# Altium schematic symbol library schlibLS.SchLib: 30 symbols
Pins are listed as number, name and electrical type; pins without a type are passive.

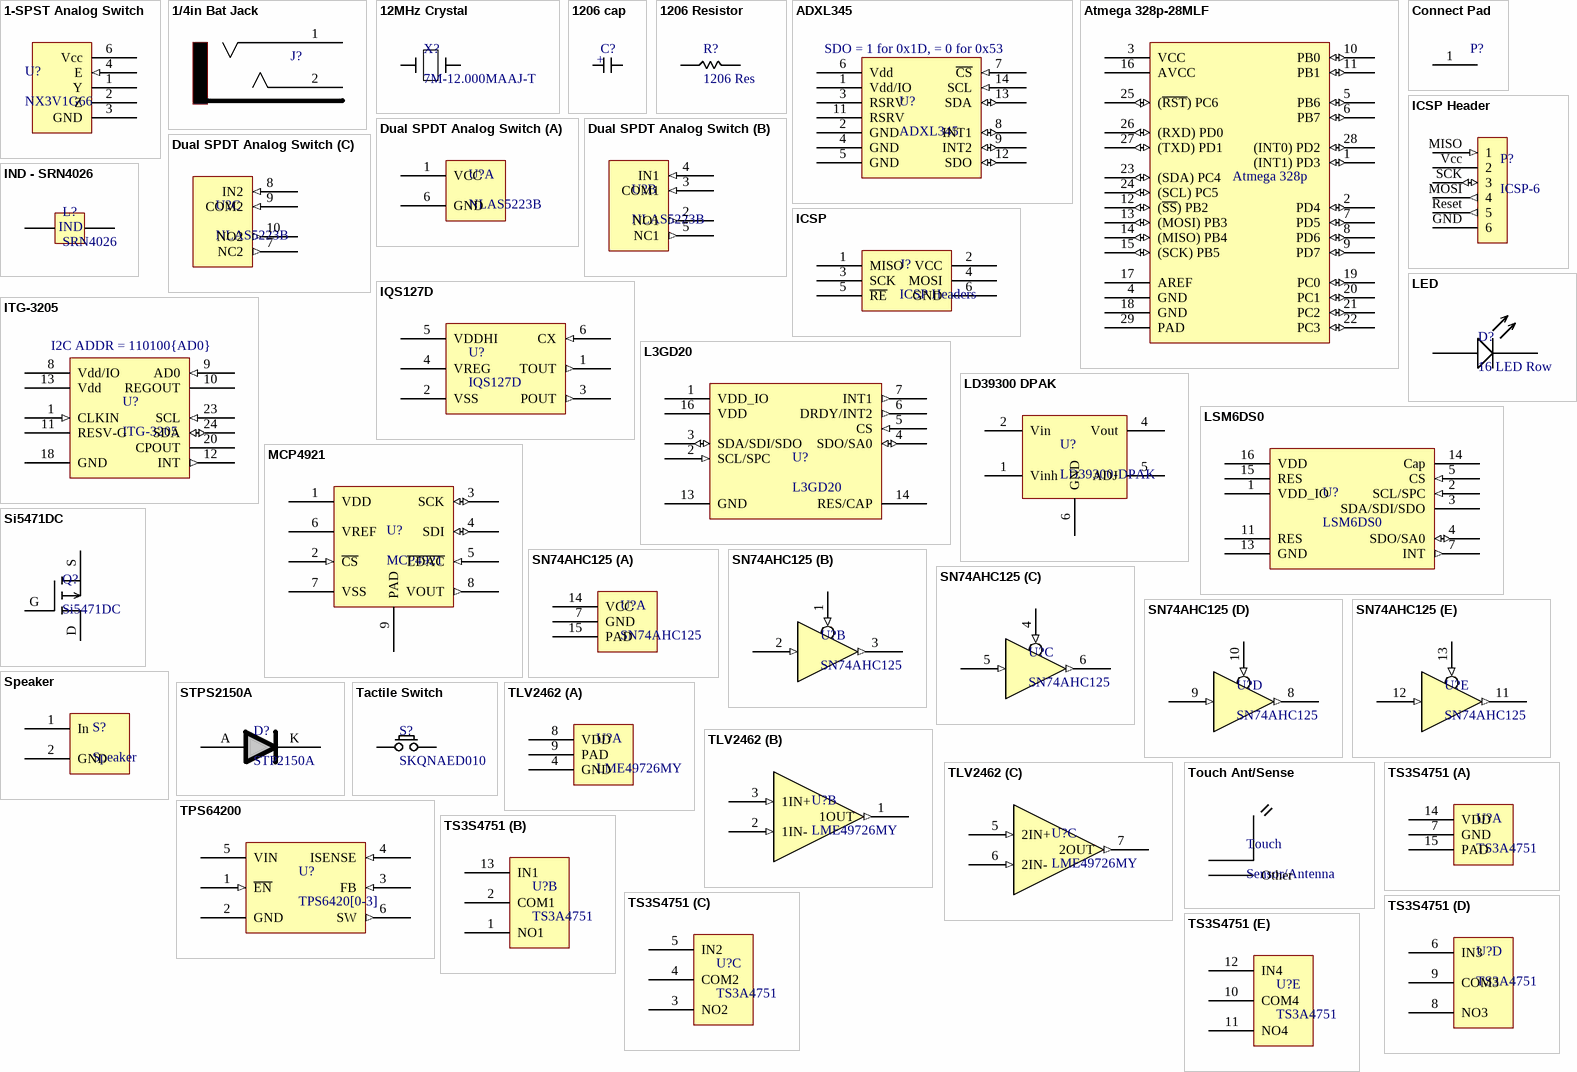
[diagram p0: symbols 1-SPST Analog Switch to TS3S4751]

## 1-SPST Analog Switch
designator U?, comment NX3V1G66
SPST Analog Switch IC
footprint SOT65P212X110-5L (1SPST Switch SOT23, 5-Leads, Body 2.05x2.13mm, Pitch 0.65mm, IPC High Density)
pins: 1 Y, 2 Z, 3 GND (power), 4 E (in) "Control, Y to Z", 6 Vcc (power)

## 1/4in Bat Jack
designator J?, comment 1/4"  (value not drawn)
footprint Battery Jack
pins: 1, 2, 3 (power)

## 12MHz Crystal
designator X?, comment 7M-12.000MAAJ-T
TXC Corp - 7M-12.000MAAJ-T
footprint SON160P320X60-4L (NX3225 Crystal)
footprint TXC 12Mhz Crystal (2.5x2mm SON)
pins: 1, 2 4 hidden to GND, 3 27, 4 5 hidden to GND

## 1206 cap
designator C?
footprint CAPC1608X09M (Chip Capacitor, 2-Leads, Body 1.60x0.80mm, IPC Low Density)
footprint CAPC3216X10M (Chip Capacitor, 2-Leads, Body 3.20x1.60mm, IPC Low Density)
footprint CAP4040X58M (AL-ELECT Capacitor, 2-Leads, Body 4.00x4.00mm, IPC Low Density)
footprint CAPMP3216X10M (POSCAP - Molded Capacitor, 2-Leads, Body 3.20x1.60mm, IPC Low Density)
footprint 0805 Capacitor (Chip Capacitor, 2-Leads, Body 2.00x1.25mm, IPC Medium Density)
footprint 0402 - CAPC1005X06N (Chip Capacitor, 2-Leads, Body 1.00x0.50mm, IPC Medium Density)
pins: 1, 2
text: +

## 1206 Resistor
designator R?, comment 1206 Res
footprint RESC3115X06M (Chip Resistor, 2-Leads, Body 3.13x1.55mm, IPC Low Density)
footprint Axial 0.6 - Isense
footprint 0805-RESISTOR (Chip Capacitor, 2-Leads, Body 2.00x1.25mm, IPC High Density)
footprint RESC1005X04N (0402 - Chip Resistor, 2-Leads, Body 1.00x0.50mm, IPC Medium Density)
pins: 1, 2

## ADXL345
designator U?
ADXL345 3 Axis Accelerometer
footprint PQFN80P300X500X100-14N (ADXL345 - PQFN, 14-Leads, Body 3.00x5.00mm, Pitch 1.01mm/0.80mm, IPC Medium Density)
pins: 1 Vdd/IO (power) "Digital Supply Voltage", 2 GND (power), 3 RSRV "Connect to Vdd or Open", 4 GND (power), 5 GND (power), 6 Vdd (power) "Supply Voltage", 7 ~{CS} (in) "Chip Select (Tie High for I2C)", 8 INT1 (io), 9 INT2 (io), 10 NC hidden "Not Connected", 11 RSRV "Connect to GND or Open", 12 SDO (io) "SPI-4 Out / Alt I2C Address Sel", 13 SDA (io) "SPI-4 In, I2C Data, Spi-3 IO", 14 SCL (in) "I2C, SPI3,4 Clock"
text: SDO = 1 for 0x1D, = 0 for 0x53

## Atmega 328p-28MLF
designator Atmega 328p, comment 28 MLF Package  (value not drawn)
28 pin MLF Package ATmega 328p
footprint QFN45P400X400X100_HS-29N (Atmega - QFN, 28-Leads, Body 4.00x4.00mm, Pitch 0.45mm, Thermal Pad 2.40x2.40mm, IPC Medium Density)
pins: 1 (INT1) PD3 (io) "Interrupt 1", 2 PD4 (io), 3 VCC (power), 4 GND (power), 5 PB6 (io) "XTAL1 / TOSC1", 6 PB7 (io) "XTAL2 / TOSC2", 7 PD5 (io), 8 PD6 (io), 9 PD7 (io), 10 PB0 (io), 11 PB1 (io), 12 (~{SS}) PB2 (io) "S\S\ SPI Select", 13 (MOSI) PB3 (io) "MOSI SPI", 14 (MISO) PB4 (io) "MISO SPI", 15 (SCK) PB5 (io) "SCK", 16 AVCC (power) "Connect to VCC, LPF if ADC used", 17 AREF "Not used here; 0.1uF cap to gnd", 18 GND (power), 19 PC0 (io), 20 PC1 (io), 21 PC2 (io), 22 PC3 (io), 23 (SDA) PC4 (io) "I2C SDA", 24 (SCL) PC5 (io) "I2C SCL", 25 (~{RST}) PC6 (io) "!Reset", 26 (RXD) PD0 (io) "RX UART", 27 (TXD) PD1 (io) "TX UART", 28 (INT0) PD2 (io) "Interrupt 0", 29 PAD

## Connect Pad
designator P?  (value not drawn)
footprint Connection Via
pins: 1 23

## Dual SPDT Analog Switch
designator U?, comment NLAS5223B
Dual SPDT Analog Switch
footprint PQFN40P140X180X80-10L (2-SPDT-Switch - PQFN, 10-Leads, Body 1.40x1.80mm, Pitch 0.40mm, IPC High Density)
part A pins: 1 VCC (power), 6 GND (power)
part B pins: 2 NO1 (out) "Follows IN1", 3 COM1 (in) "Common to Both Outs", 4 IN1 (in) "Control Pin", 5 NC1 (out) "Inverse N1"
part C pins: 7 NC2 (out) "Inverse N1", 8 IN2 (in) "Control Pin", 9 COM2 (in) "Common to Both Outs", 10 NO2 (out) "Follows IN1"

## ICSP
designator J?, comment ICSP Headers
footprint ICSP (50 mil pitch icsp headers...)
pins: 1 MISO, 2 VCC (power), 3 SCK, 4 MOSI, 5 ~{RE}, 6 GND (power)

## ICSP Header
designator P?, comment ICSP-6
6 Pin ICSP
footprint 6 Pin 2 Row
pins: GND 6 (power) "Ground\", MISO 1 (in) "Master In / Serial Out", MOSI 4 (out) "Master Out / Serial In\", Reset 5 (out) "Reset Pin", SCK 3 (io) "Serial Clock", Vcc 2 (power) "Power"

## IND - SRN4026
designator L?, comment SRN4026
Power Inductor
footprint INDP2523X23N (Bournes 4x4mm IND)
pins: 1, 2
text: IND

## IQS127D
designator U?
Capacitive Touch Sensor (1-key)
footprint IQS-SOT23127P600-8N (IQS127D IC)
pins: 1 TOUT (out) "Touch Output", 2 VSS (power) "GND", 3 POUT (out) "Proximity Output", 4 VREG, 5 VDDHI (power) "Supply", 6 CX (in) "Sense Antenna"

## ITG-3205
designator U?
3-Axis Digital Gyroscope
footprint PQFN50P395X395X95_HS-25L-2nd (ITG3205 - PQFN, 24-Leads, Body 3.95x3.95mm, Pitch 0.50mm, Thermal Pad 2.90x2.80mm, IPC High Density)
pins: 1 CLKIN (in) "Optional Ref Clk. If not, connect to GND", 2 NC hidden "Can use for routing", 3 NC hidden "Can use for routing", 4 NC hidden "Can use for routing", 5 NC hidden "Can use for routing", 6 RSRV hidden, 7 RSRV hidden, 8 Vdd/IO (power) "Digital Supply Voltage", 9 AD0 (in) "I2C LSB Address Bit", 10 REGOUT "Regulator Filter Cap Connection", 11 RESV-G (power) "Reserved, connected to GND", 12 INT (out) "Interrupt Out", 13 Vdd (power), 14 NC hidden "Can use for routing", 15 NC hidden "Can use for routing", 16 NC hidden "Can use for routing", 17 NC hidden "Can use for routing", 18 GND (power), 19 RSRV hidden, 20 CPOUT "Charge Pump Cap", 21 RSRV hidden, 22 RSRV hidden, 23 SCL (in) "I2C Clock", 24 SDA (io) "I2C Serial Data"
text: I2C ADDR = 110100{AD0}

## L3GD20
designator U?
STMicro Gyroscope
footprint STMGv2 - PQFN65P400X400X100-16N (PQFN, 16-Leads, Body 4.00x4.00mm, Pitch 0.65mm, IPC Medium Density)
pins: 1 VDD_IO (power), 2 SCL/SPC (in), 3 SDA/SDI/SDO (io), 4 SDO/SA0 (io), 5 CS (in), 6 DRDY/INT2 (out), 7 INT1 (out), 8 RES hidden to GND "GND", 9 RES hidden to GND "GND", 10 RES hidden to GND "GND", 11 RES hidden to GND "GND", 12 RES hidden to GND "GND", 13 GND, 14 RES/CAP "Cap to GND", 15 RES hidden to VDD "VDD", 16 VDD (power)

## LD39300 DPAK
designator U?, comment LD39300-DPAK
footprint DPAK228P972X240-3M (D-PAK, 3-Pads, Body 6.20x6.66mm (max), IPC Low Density)
footprint TO228P970-3N (LD39300-ADJ DDPAK)
pins: 1 Vinh "Active High Enable", 2 Vin (power), 4 Vout (power), 5 ADJ "Vsense and ADJ", 6 GND (power)

## LED
designator D?, comment 16 LED Row
footprint LED
footprint Final LED
pins: A, K

## LSM6DS0
designator U?
STMicro Accel/Gyro
footprint PQFN127P600-8N (STM 16 Pin LGA)
pins: 1 VDD_IO (power), 2 SCL/SPC (in), 3 SDA/SDI/SDO, 4 SDO/SA0 (io), 5 CS (in), 6 RES hidden "N/C", 7 INT (out) "Programmable Interrupt", 8 RES hidden to GND "GND", 9 RES hidden to GND, 10 RES hidden to GND, 11 RES "GND or VCC", 12 GND (power) hidden to GND, 13 GND (power), 14 Cap, 15 RES "VDD or GND", 16 VDD (power)

## MCP4921
designator U?
12-bit DAC
footprint SOIC127P600X135-8M (SOIC, 8-Leads, Body 4.90x3.85mm, Pitch 1.27mm, IPC Low Density)
footprint SON50P300X100_HS-9N (DAC - SON, 8-Leads, Body 2.00x3.00mm, Pitch 0.50mm, Thermal Pad 1.43x1.58mm, IPC Medium Density)
pins: 1 VDD (power) "Supply", 2 ~{CS} (in) "Chip Select", 3 SCK (io) "Serial Clock", 4 SDI (io) "SPI Input", 5 ~{LDAC} (in) "Sync Input", 6 VREF, 7 VSS (power), 8 VOUT (out) "Output", 9 PAD (power)

## Si5471DC
designator Q?
Vishay Power MOSFET
footprint SON65P160X110-8M (ChipFET - SON, 8-Leads, Body 3.05x1.65mm, Pitch 0.65mm, IPC Low Density)
pins: D Drain, G Gate, S Source

## SN74AHC125
designator U?
Quad Input Buffer
footprint DIP14
footprint PQFN50P350X350X100_HS-15N (4-SWT - PQFN, 14-Leads, Body 3.50x3.50mm, Pitch 1.50mm/0.50mm, Thermal Pad 2.05x2.05mm, IPC Medium Density)
footprint SOP127P620X175-14L (Buffer - SOP, 14-Leads, Body 8.65x3.90mm, Pitch 1.27mm, IPC High Density)
part A pins: 7 GND (power), 14 VCC (power), 15 PAD
part B pins: 1 1~{OE} (in), 2 1A (in), 3 1Y (out)
part C pins: 4 2~{OE} (in), 5 2A (in), 6 2Y (out)
part D pins: 8 3Y (out), 9 3A (in), 10 3~{OE} (in)
part E pins: 11 4Y (out), 12 4A (in), 13 4~{OE} (in)

## Speaker
designator S?
Actual Speaker
footprint Speaker (The speaker on old dev board)
footprint Piggyback Cutouts (Cutouts for piggyback board)
pins: 1 In, 2 GND

## STPS2150A
designator D?, comment STP2150A
SMA Diode
footprint DIOM5126X26L (Molded Diode, 2-Leads, Body 5.07x2.57mm, IPC High Density)
pins: A, K 24

## Tactile Switch
designator S?, comment SKQNAED010
Tactile Switch (Default off)
footprint SKQNAED010 (Tactile Switch)
pins: 1, 2

## TLV2462
designator U?, comment LME49726MY
2 Unit OPAMP
footprint OPAMP - SOIC127P600X175-8N (TI TLV2462 D Package)
footprint TSOP65P490X109_HS-9L (LME49726 - TSOP, 8-Leads, Body 3.00x3.00mm, Pitch 0.65mm, Thermal Pad 1.85x1.73mm, IPC High Density)
part A pins: 4 GND (power), 8 VDD (power), 9 PAD (power)
part B pins: 1 1OUT (out), 2 1IN- (in), 3 1IN+ (in)
part C pins: 5 2IN+ (in), 6 2IN- (in), 7 2OUT (out)

## Touch Ant/Sense
designator Touch, comment Sensor/Antenna
footprint Touch Switch (Capacitive Touch Switch)
pins: 1, 2 Other

## TPS64200
designator U?, comment TPS6420[0-3]
TI High Current Voltage Regulators
footprint SOT95P280X145-6M (SOT23, 6-Leads, Body 2.90x2.80mm, Pitch 0.95mm, IPC Low Density)
pins: 1 ~{EN} (in), 2 GND (power), 3 FB (in), 4 ISENSE (in), 5 VIN (power), 6 SW (out)

## TS3S4751
designator U?, comment TS3A4751
Quad SPST Analog Switch
footprint TSOP65P640X120-14M (TSOP, 14-Leads, Body 5.00x4.40mm, Pitch 0.65mm, IPC Low Density)
footprint PQFN50P350X350X100_HS-15N (4-SWT - PQFN, 14-Leads, Body 3.50x3.50mm, Pitch 1.50mm/0.50mm, Thermal Pad 2.05x2.05mm, IPC Medium Density)
part A pins: 7 GND, 14 VDD (power), 15 PAD (power)
part B pins: 1 NO1, 2 COM1, 13 IN1
part C pins: 3 NO2, 4 COM2, 5 IN2
part D pins: 6 IN3, 8 NO3, 9 COM3
part E pins: 10 COM4, 11 NO4, 12 IN4

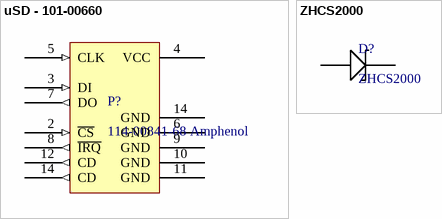
[diagram p1: symbols uSD - 101-00660 to ZHCS2000]

## uSD - 101-00660
designator P?, comment 114-00841-68 Amphenol
MicroSD Card Slot
footprint Final Board uSD
pins: 1 NC hidden, 2 ~{CS} (in), 3 DI (in) "MOSI", 4 VCC (power), 5 CLK (in), 6 GND (power), 7 DO (out) "MISO", 8 ~{IRQ} (out) "NC if not SDIO Card", 9 GND (power), 10 GND (power), 11 GND (power), 12 CD (out), 14 CD (out), 14 GND

## ZHCS2000
designator D?
Schottky Barrier Diode
footprint SOT95P285X145-6M (ZHCS2000 - SOT23, 6-Leads, Body 3.00x2.85mm, Pitch 0.95mm, IPC Low Density)
pins: A, C